# Altium integrated library BMI-S-205-F.IntLib: 1 symbol
Pins are listed as number, name and electrical type; pins without a type are passive.

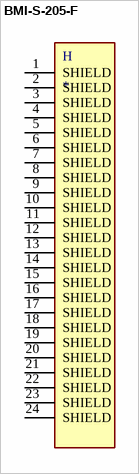
[diagram p0: symbol BMI-S-205-F]

## BMI-S-205-F
designator H
RF Shield Frame 1.000 _25.40mm_ X 1.500 _38.10mm_ Solder; MF: Laird Technologies; MP: BMI-S-205-F; Price: None; SnapEDA_Link: https://www.snapeda.com/parts/BMI-S-205-F/Laird%20Technologies%20EMI/view-part/596236/?ref=snap; Package: TSSOP-14 Laird; Availability: Unavailable; Value: *
footprint LAIRD_BMI-S-205-F
pins: 1 SHIELD (power), 2 SHIELD (power), 3 SHIELD (power), 4 SHIELD (power), 5 SHIELD (power), 6 SHIELD (power), 7 SHIELD (power), 8 SHIELD (power), 9 SHIELD (power), 10 SHIELD (power), 11 SHIELD (power), 12 SHIELD (power), 13 SHIELD (power), 14 SHIELD (power), 15 SHIELD (power), 16 SHIELD (power), 17 SHIELD (power), 18 SHIELD (power), 19 SHIELD (power), 20 SHIELD (power), 21 SHIELD (power), 22 SHIELD (power), 23 SHIELD (power), 24 SHIELD (power)